# EAGLE library part LTC3562 (library Analog Devices)
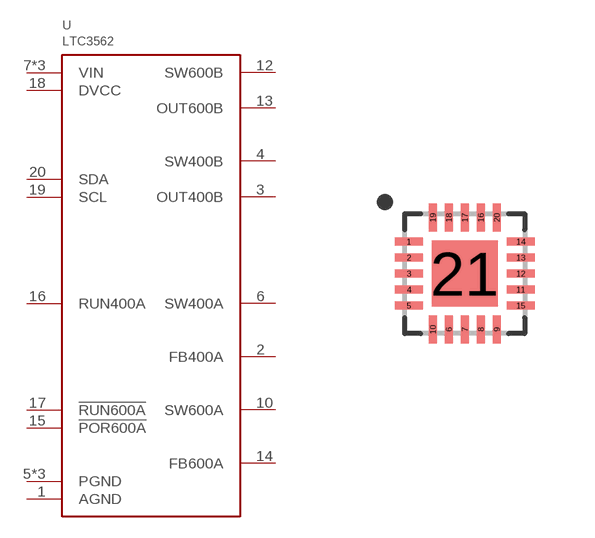
[diagram p7: symbol with the pads of QFN20_0.4P; footprint QFN20_0.4P]

Designator prefix U

## LTC3562  [QFN20_0.4P]
1  AGND
2  FB400A
3  OUT400B
4  SW400B
5  PGND
6  SW400A
7  VIN
8  VIN
9  VIN
10  SW600A
11  PGND
12  SW600B
13  OUT600B
14  FB600A
15  !POR600A
16  RUN400A
17  !RUN600A
18  DVCC
19  SCL
20  SDA
21  PGND

## Footprint QFN20_0.4P (pad centres in mm)
smd 0.7 x 0.2: 1 -1.4,0.8; 2 -1.4,0.4; 3 -1.4,0; 4 -1.4,-0.4; 5 -1.4,-0.8; 11 1.4,-0.4; 12 1.4,0; 13 1.4,0.4; 14 1.4,0.8; 15 1.4,-0.8
smd 0.2 x 0.7: 6 -0.4,-1.4; 7 0,-1.4; 8 0.4,-1.4; 9 0.8,-1.4; 10 -0.8,-1.4; 16 0.4,1.4; 17 0,1.4; 18 -0.4,1.4; 19 -0.8,1.4; 20 0.8,1.4
smd 1.65 x 1.65: 21 0,0